# EAGLE library part LTC4125 (library Analog Devices)
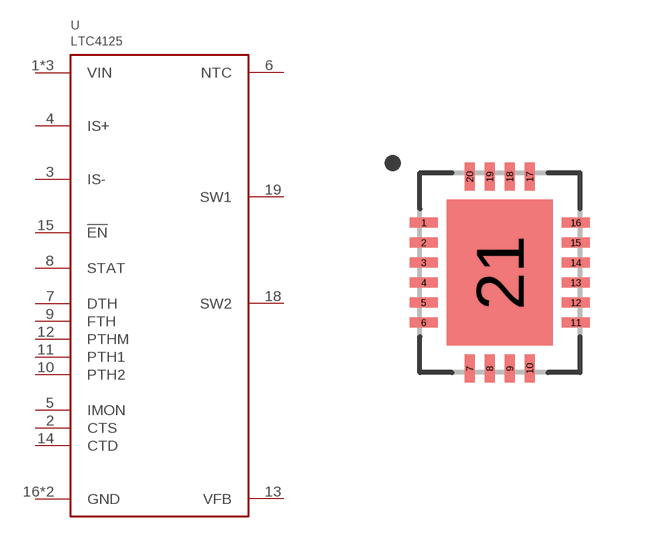
[diagram p6: symbol with the pads of QFN20_ASYM_4X5; footprint QFN20_ASYM_4X5]

Designator prefix U

## LTC4125  [QFN20_ASYM_4X5]
1  VIN
2  CTS
3  IS-
4  IS+
5  IMON
6  NTC
7  DTH
8  STAT
9  FTH
10  PTH2
11  PTH1
12  PTHM
13  VFB
14  CTD
15  !EN
16  GND
17  VIN
18  SW2
19  SW1
20  VIN
21  GND

## Footprint QFN20_ASYM_4X5 (pad centres in mm)
smd 0.7 x 0.25: 1 -1.9,1.25; 2 -1.9,0.75; 3 -1.9,0.25; 4 -1.9,-0.25; 5 -1.9,-0.75; 6 -1.9,-1.25; 11 1.9,-1.25; 12 1.9,-0.75; 13 1.9,-0.25; 14 1.9,0.25; 15 1.9,0.75; 16 1.9,1.25
smd 0.25 x 0.7: 7 -0.75,-2.4; 8 -0.25,-2.4; 9 0.25,-2.4; 10 0.75,-2.4; 17 0.75,2.4; 18 0.25,2.4; 19 -0.25,2.4; 20 -0.75,2.4
smd 2.65 x 3.65: 21 0,0